# EAGLE library part SWAPPABLE-VCF-V1.0 (library XM8)
Xonik Swappable Filter
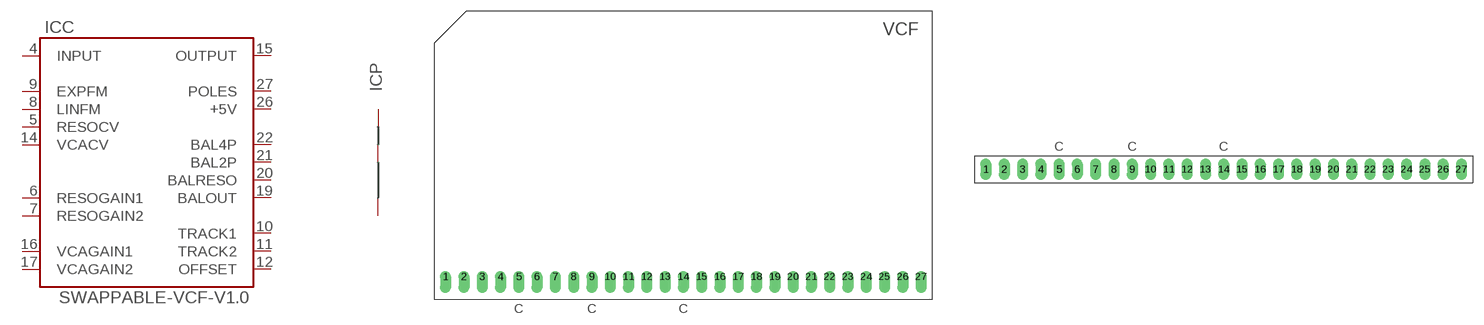
[diagram p3: symbol with the pads of XM8-SWAPPABLE-VCF-V1.0H; footprints XM8-SWAPPABLE-VCF-V1.0H, XM8-SWAPPABLE-VCF-V1.0V]

Designator prefix IC; gates C=XM8-SWAPPABLE-VCF-V1.0 P=XM8-PWR

## SWAPPABLE-VCF-V1.0H  [XM8-SWAPPABLE-VCF-V1.0H]
4  C:INPUT
5  C:RESOCV
6  C:RESOGAIN1
7  C:RESOGAIN2
8  C:LINFM
9  C:EXPFM
10  C:TRACK1
11  C:TRACK2
12  C:OFFSET
14  C:VCACV
15  C:OUTPUT
16  C:VCAGAIN1
17  C:VCAGAIN2
19  C:BALOUT
20  C:BALRESO
21  C:BAL2P
22  C:BAL4P
23  P:+V  pwr
24  P:AGND  pwr
25  P:-V  pwr
26  C:+5V  pwr
27  C:POLES

## SWAPPABLE-VCF-V1.0V  [XM8-SWAPPABLE-VCF-V1.0V]
Pads as for XM8-SWAPPABLE-VCF-V1.0H

## Footprint XM8-SWAPPABLE-VCF-V1.0H (pad centres in mm)
Xonik Swappable Filter, horizontal mount
drill 1.016 offset: 1 -33.02,0; 2 -30.48,0; 3 -27.94,0; 4 -25.4,0; 5 -22.86,0; 6 -20.32,0; 7 -17.78,0; 8 -15.24,0; 9 -12.7,0; 10 -10.16,0; 11 -7.62,0; 12 -5.08,0; 13 -2.54,0; 14 0,0; 15 2.54,0; 16 5.08,0; 17 7.62,0; 18 10.16,0; 19 12.7,0; 20 15.24,0; 21 17.78,0; 22 20.32,0; 23 22.86,0; 24 25.4,0; 25 27.94,0; 26 30.48,0; 27 33.02,0

## Footprint XM8-SWAPPABLE-VCF-V1.0V (pad centres in mm)
Xonik Swappable Filter, vertical mount
drill 1.016 long: 1 -33.02,0; 2 -30.48,0; 3 -27.94,0; 4 -25.4,0; 5 -22.86,0; 6 -20.32,0; 7 -17.78,0; 8 -15.24,0; 9 -12.7,0; 10 -10.16,0; 11 -7.62,0; 12 -5.08,0; 13 -2.54,0; 14 0,0; 15 2.54,0; 16 5.08,0; 17 7.62,0; 18 10.16,0; 19 12.7,0; 20 15.24,0; 21 17.78,0; 22 20.32,0; 23 22.86,0; 24 25.4,0; 25 27.94,0; 26 30.48,0; 27 33.02,0